# Altium schematic symbol library TPS62082DSG.SchLib: 1 symbol
Pins are listed as number, name and electrical type; pins without a type are passive.

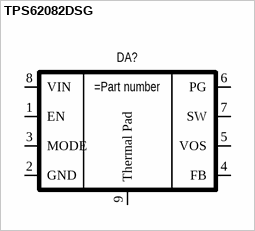
[diagram p0: symbol TPS62082DSG]

## TPS62082DSG
designator DA?
1.2-A High-Efficiency, Step-Down Converter With DCS-Control™ / and Snooze Mode
pins: 1 EN, 2 GND, 3 MODE, 4 FB, 5 VOS, 6 PG, 7 SW, 8 VIN, 9 Thermal Pad